# Altium schematic symbol library ECU_Components.SCHLIB: 8 symbols
Pins are listed as number, name and electrical type; pins without a type are passive.

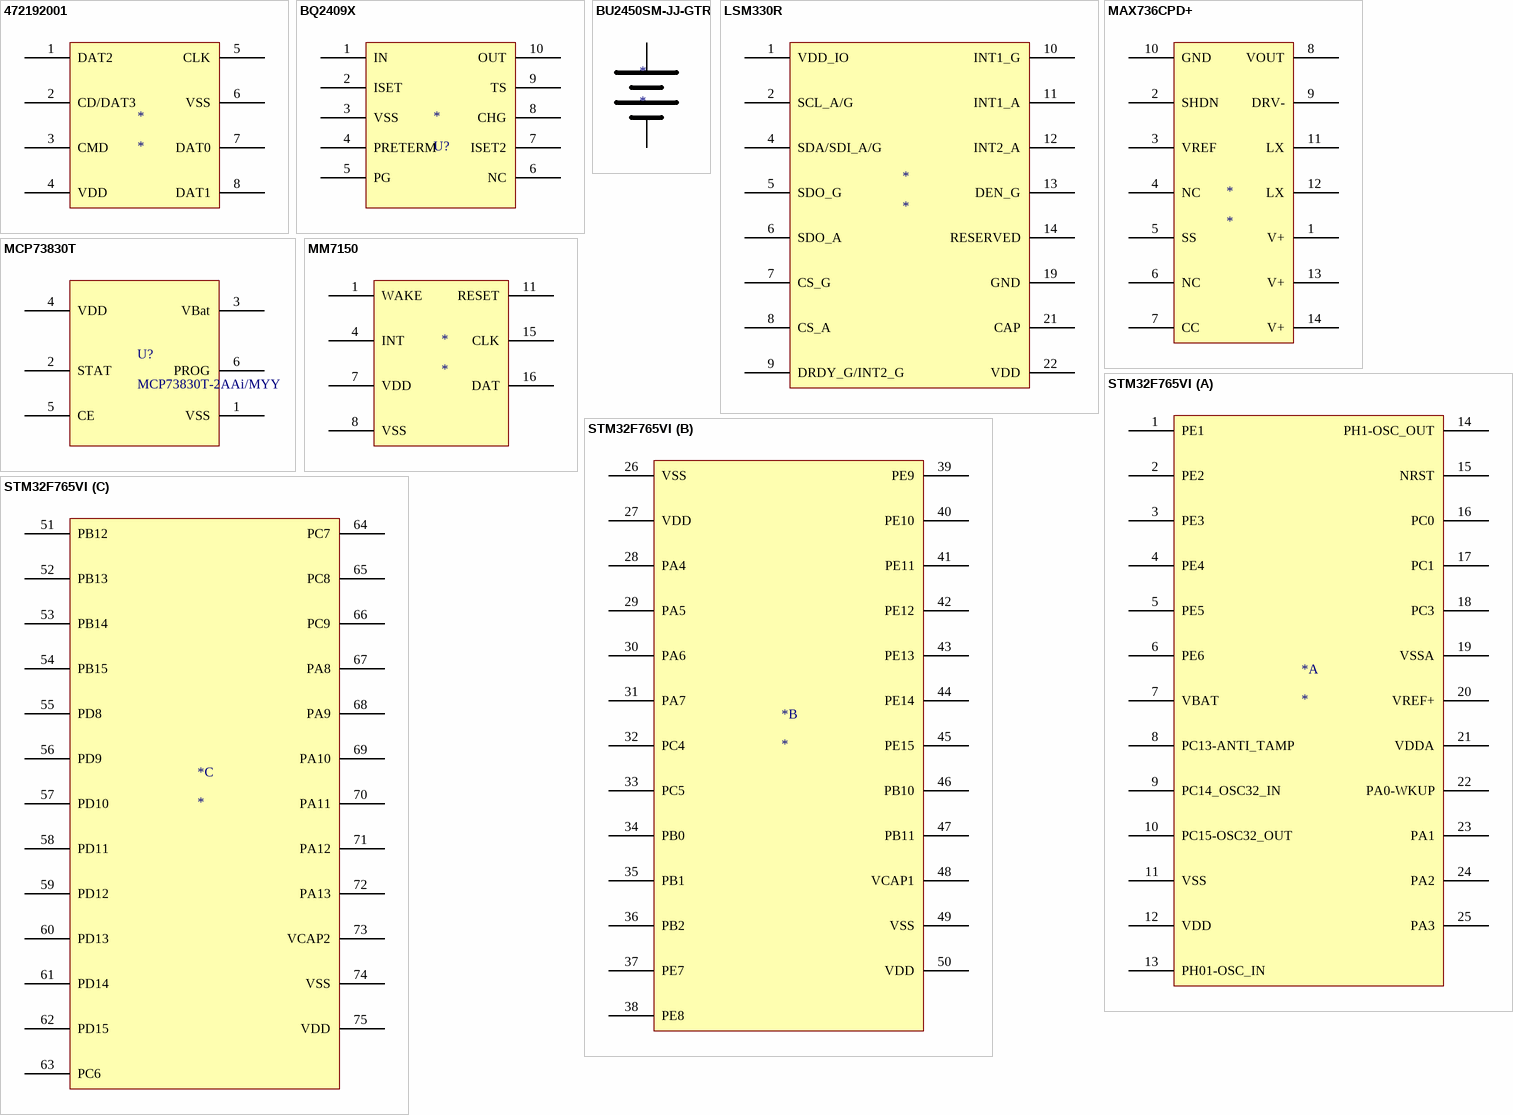
[diagram p0: symbols 472192001 to STM32F765VI]

## 472192001
designator *
pins: 1 DAT2, 2 CD/DAT3, 3 CMD, 4 VDD, 5 CLK, 6 VSS, 7 DAT0, 8 DAT1

## BQ2409X
designator *, comment U?
footprint BQ24091
pins: 1 IN, 2 ISET, 3 VSS, 4 PRETERM, 5 PG, 6 NC, 7 ISET2, 8 CHG, 9 TS, 10 OUT

## BU2450SM-JJ-GTR
designator *
footprint BATTERY
pins: 1, 2

## LSM330R
designator *
pins: 1 VDD_IO, 2 SCL_A/G, 4 SDA/SDI_A/G, 5 SDO_G, 6 SDO_A, 7 CS_G, 8 CS_A, 9 DRDY_G/INT2_G, 10 INT1_G, 11 INT1_A, 12 INT2_A, 13 DEN_G, 14 RESERVED, 19 GND, 21 CAP, 22 VDD

## MAX736CPD+
designator *
footprint 14-PDIP
pins: 1 V+, 2 SHDN, 3 VREF, 4 NC, 5 SS, 6 NC, 7 CC, 8 VOUT, 9 DRV-, 10 GND, 11 LX, 12 LX, 13 V+, 14 V+

## MCP73830T
designator U?, comment MCP73830T-2AAi/MYY
footprint MCP73830/L (AAYY-MYY)
pins: 1 VSS, 2 STAT, 3 VBat, 4 VDD, 5 CE, 6 PROG

## MM7150
designator *
footprint ACCEL
pins: 1 WAKE, 4 INT, 7 VDD, 8 VSS, 11 RESET, 15 CLK, 16 DAT

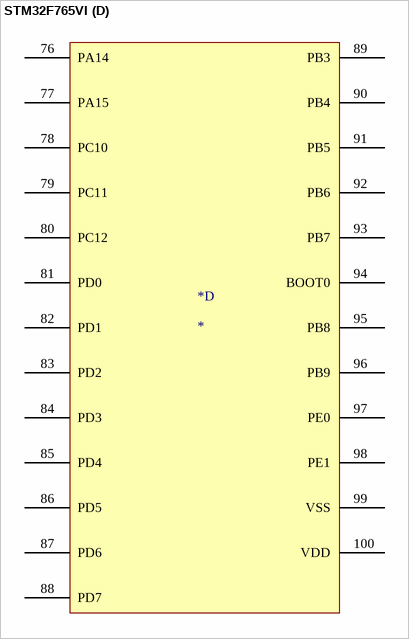
[diagram p1: symbol STM32F765VI]

## STM32F765VI
designator *
footprint LQFP-100_14X14mm
part A pins: 1 PE1, 2 PE2, 3 PE3, 4 PE4, 5 PE5, 6 PE6, 7 VBAT, 8 PC13-ANTI_TAMP, 9 PC14_OSC32_IN, 10 PC15-OSC32_OUT, 11 VSS, 12 VDD, 13 PH01-OSC_IN, 14 PH1-OSC_OUT, 15 NRST, 16 PC0, 17 PC1, 18 PC3, 19 VSSA, 20 VREF+, 21 VDDA, 22 PA0-WKUP, 23 PA1, 24 PA2, 25 PA3
part B pins: 26 VSS, 27 VDD, 28 PA4, 29 PA5, 30 PA6, 31 PA7, 32 PC4, 33 PC5, 34 PB0, 35 PB1, 36 PB2, 37 PE7, 38 PE8, 39 PE9, 40 PE10, 41 PE11, 42 PE12, 43 PE13, 44 PE14, 45 PE15, 46 PB10, 47 PB11, 48 VCAP1, 49 VSS, 50 VDD
part C pins: 51 PB12, 52 PB13, 53 PB14, 54 PB15, 55 PD8, 56 PD9, 57 PD10, 58 PD11, 59 PD12, 60 PD13, 61 PD14, 62 PD15, 63 PC6, 64 PC7, 65 PC8, 66 PC9, 67 PA8, 68 PA9, 69 PA10, 70 PA11, 71 PA12, 72 PA13, 73 VCAP2, 74 VSS, 75 VDD
part D pins: 76 PA14, 77 PA15, 78 PC10, 79 PC11, 80 PC12, 81 PD0, 82 PD1, 83 PD2, 84 PD3, 85 PD4, 86 PD5, 87 PD6, 88 PD7, 89 PB3, 90 PB4, 91 PB5, 92 PB6, 93 PB7, 94 BOOT0, 95 PB8, 96 PB9, 97 PE0, 98 PE1, 99 VSS, 100 VDD